# Altium footprint library toaster.PcbLib: 11 footprints
Each footprint in its own frame and in the unit in brackets; x right, y up, seen from the top. Pads: shape width x height; smd on the part's side, far side on the other; paste and mask are expansions set on the pad; w line width, h text height; cw(c..) or ccw(c..) is an arc to the next point about the centre after c.
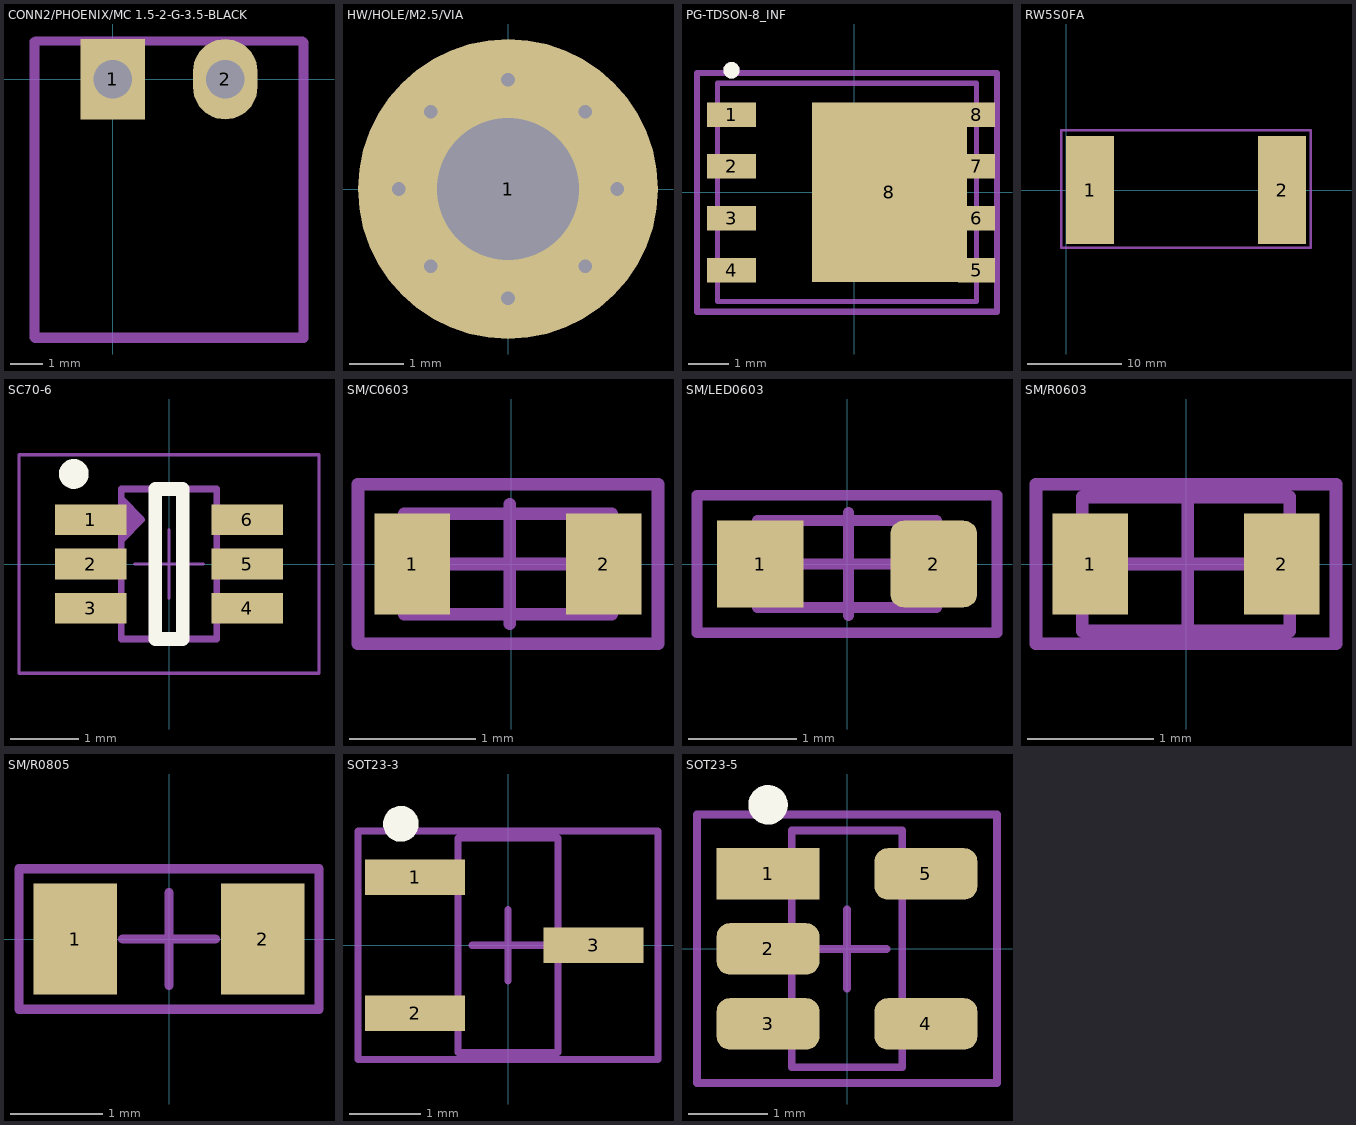
[diagram p0: the footprints below, top view; thin cyan lines are the x and y axes]

## CONN2/PHOENIX/MC 1.5-2-G-3.5-BLACK [mm]
pads (2):
  rect 2x2.5 hole 1.2: 1(0,0)
  oval 2x2.5 hole 1.2: 2(3.5,0)
Top Assembly:
  lines w0.254: -2.464,-8.026 -2.413,-8.077 ; 5.944,-8.077 5.969,-8.052 ; 5.944,1.168 5.969,1.143
Top 3D Body:
  lines w0.254: -2.4,-8 5.9,-8 5.9,1.2 -2.4,1.2 -2.4,-8
Top Courtyard:
  lines w0.254: -2.464,-8.026 -2.464,1.168 ; -2.413,-8.077 5.944,-8.077 ; -2.413,1.168 5.944,1.168 ; 5.969,-8.052 5.969,1.143
Top Designator:
  text ".Designator" at -1.746,-3.66 h0.7
3D body "pxc_1844210_05_MC-1-5-2-G-3-5_3Dblack.STEP": height 7.25, standoff -3.4, extent -2.439,-8 5.961,1.2

## HW/HOLE/M2.5/VIA [mm]
pads (1):
  round 5.5 hole 2.6: 1(0,0)
via 0,2 diameter 0.6 hole 0.25
via 2,0 diameter 0.6 hole 0.25
via 0,-2 diameter 0.6 hole 0.25
via -2,0 diameter 0.6 hole 0.25
via -1.414,1.414 diameter 0.6 hole 0.25
via 1.414,1.414 diameter 0.6 hole 0.25
via 1.414,-1.414 diameter 0.6 hole 0.25
via -1.414,-1.414 diameter 0.6 hole 0.25
Top Designator:
  text ".Designator" at -7.618,-0.508 h1.52

## PG-TDSON-8_INF [mm]
pads (9):
  rect 1.2x0.6 smd: 1(-3,1.905) 2(-3,0.635) 3(-3,-0.635) 4(-3,-1.905)
  rect 0.9x0.6 smd: 5(3,-1.905) 6(3,-0.635) 7(3,0.635) 8(3,1.905)
  rect 3.8x4.4 smd paste-3: 8(0.864,0)
Top Overlay:
  circle w0.2: c-3.005,2.992 r0.1
Top Paste:
  region: 2.2,0.6 1.018,0.6 1.018,1.795 2.2,1.795
  region: 0.6,0.6 -0.582,0.6 -0.582,1.795 0.6,1.795
  region: 0.6,-1.8 -0.582,-1.8 -0.582,-0.605 0.6,-0.605
  region: 2.2,-1.8 1.018,-1.8 1.018,-0.605 2.2,-0.605
Top 3D Body:
  circle w0.2: c-3.005,2.992 r0.1
  lines w0.127: -3.35,-2.675 3,-2.675 3,2.675 -3.35,2.675 -3.35,-2.675
Top Courtyard:
  lines w0.15: -3.85,-2.925 3.5,-2.925 3.5,2.925 -3.85,2.925 -3.85,-2.925
3D body "User Library-son_1p27-6x5x1p10-5_8n.STEP": height 1.1, standoff 0, extent -3.124,-2.575 3.026,2.575

## RW5S0FA [mm]
pads (2):
  rect 5.08x11.43 smd: 1(2.54,0) 2(22.86,0)
Top Courtyard:
  lines w0.254: -0.508,-6.096 -0.508,6.35 25.908,6.35 25.908,-6.096 -0.508,-6.096
3D body "RW5S0FA10K0JE--3DModel-STEP-56544.STEP": height 10.31, standoff 0, extent 2.464,-4.572 22.936,4.699

## SC70-6 [mm] "SOT363, 6-Leads, Body 2x1.3mm, Pitch 0.65mm, Lead Span 2.1mm, IPC Low Density"
height 1.1
pads (6):
  rect 1.05x0.45 smd: 1(-1.15,0.65) 2(-1.15,0) 3(-1.15,-0.65) 4(1.15,-0.65) 5(1.15,0) 6(1.15,0.65)
Top Overlay:
  circle w0.254: c-1.397,1.321 r0.092
  lines w0.2: -0.2,-1.1 -0.2,1.1 0.2,1.1 0.2,-1.1 -0.2,-1.1
Top 3D Body:
  lines w0.1: -0.7,0.35 -0.4,0.65 -0.7,0.95 ; -0.7,0.45 -0.5,0.65 -0.7,0.85 ; -0.7,0.55 -0.6,0.65 -0.7,0.75 ; -0.7,-1.1 0.7,-1.1 0.7,1.1 -0.7,1.1 -0.7,-1.1
Top Courtyard:
  lines w0.05: -0.5,0 0,0 ; 0,-0.5 0,0 ; 0,0.5 0,0 ; 0.5,0 0,0 ; -2.2,-1.6 2.2,-1.6 2.2,1.6 -2.2,1.6 -2.2,-1.6
Top Designator:
  text ".Designator" at -7.618,-0.508 h1.52
3D body "SC-70-6.STEP": height 1.1, standoff -0.01, extent -1.15,-1.132 1.1,1.118

## SM/C0603 [mm] "Chip Capacitor, Body 1.6x0.8mm, IPC Low Density"
height 0.6
pads (2):
  rect 0.6x0.8 smd: 1(-0.787,0) 2(0.737,0)
Top 3D Body:
  lines w0.1: -0.851,-0.4 0.8,-0.4 0.8,0.4 -0.851,0.4 -0.851,-0.4
Top Courtyard:
  lines w0.1: -0.488,0 0.462,0 ; -0.013,-0.475 -0.013,0.475 ; -1.219,-0.635 1.168,-0.635 1.168,0.635 -1.219,0.635 -1.219,-0.635
Top Designator:
  text ".Designator" at -2.525,-0.167 h0.5
3D body "SM-C603.STEP": height 0.6, standoff 0, extent -0.825,-0.4 0.775,0.4

## SM/LED0603 [mm] "Chip Capacitor, Body 1.6x0.8mm, IPC Low Density"
height 0.6
pads (2):
  rect 0.8x0.8 smd: 1(-0.8,0)
  rrect30% 0.8x0.8 smd: 2(0.8,0)
Top 3D Body:
  lines w0.1: -0.826,-0.4 -0.826,0.4 0.826,0.4 0.826,-0.4 -0.826,-0.4
Top Courtyard:
  lines w0.1: -0.462,0 0.488,0 ; 0.013,-0.475 0.013,0.475 ; -1.384,-0.635 -1.384,0.635 1.384,0.635 1.384,-0.635 -1.384,-0.635
Top Designator:
  text ".Designator" at -3.199,1.167 h0.7
3D body "XZxx53-1.STEP": height 0.73, standoff -0.02, extent -0.776,-0.401 0.835,0.401

## SM/R0603 [mm] "Chip Resistor, Body 1.6x0.8mm, IPC Low Density"
height 0.6
pads (2):
  rect 0.6x0.8 smd: 1(-0.762,0) 2(0.762,0)
Top 3D Body:
  lines w0.1: -0.826,-0.533 -0.826,0.533 0.826,0.533 0.826,-0.533 -0.826,-0.533
Top Courtyard:
  lines w0.1: -0.462,0 0.488,0 ; 0.013,-0.475 0.013,0.475 ; -1.194,-0.635 1.194,-0.635 1.194,0.635 -1.194,0.635 -1.194,-0.635
Top Designator:
  text ".Designator" at -2.499,-0.167 h0.5
3D body "RES0603-1.STEP": height 0.4, standoff 0, extent -0.8,-0.4 0.8,0.4

## SM/R0805 [mm] "Chip Resistor, Body 2.0x1.3mm, IPC Low Density"
height 0.65
pads (2):
  rect 0.9x1.2 smd: 1(-1.016,0) 2(1.016,0)
Top Courtyard:
  lines w0.1: -0.5,0 0.5,0 ; 0,-0.5 0,0.5 ; -1.626,-0.762 1.626,-0.762 1.626,0.762 -1.626,0.762 -1.626,-0.762
Top Designator:
  text ".Designator" at -7.618,-0.508 h1.52
3D body "RES_0805L.STEP": height 0.21, standoff -0.2, extent -1,-0.625 1,0.625

## SOT23-3 [mm] "SOT23, 3-Leads, Body 3.0x2.6mm (max), Pitch 0.95mm, IPC Low Density"
height 1.1
pads (3):
  rect 1.4x0.5 smd: 1(-1.3,0.95) 2(-1.3,-0.95) 3(1.2,0)
Top Overlay:
  circle w0.25: c-1.5,1.7 r0.125
Top 3D Body:
  lines w0.1: -0.7,-1.5 -0.7,1.5 0.7,1.5 0.7,-1.5 -0.7,-1.5
Top Courtyard:
  lines w0.1: -0.5,0 0.5,0 ; 0,-0.5 0,0.5 ; -2.1,-1.6 2.1,-1.6 2.1,1.6 -2.1,1.6 -2.1,-1.6
Top Designator:
  text ".Designator" at -3.499,-0.233 h0.7
3D body "SOT23-3.STEP": height 1.46, standoff 0, extent -1.575,-1.501 1.422,1.499

## SOT23-5 [mm] "SOT23, 5-Leads, Body 3.0x2.6mm (max), Pitch 0.95mm, IPC Low Density"
height 1.1
pads (5):
  rect 1.3x0.65 smd: 1(-1,0.95)
  rrect50% 1.3x0.65 smd: 2(-1,0) 3(-1,-0.95) 4(1,-0.95) 5(1,0.95)
Top Overlay:
  circle w0.25: c-1,1.825 r0.125
Top 3D Body:
  lines w0.1: -0.7,-1.5 0.7,-1.5 0.7,1.5 -0.7,1.5 -0.7,-1.5
Top Courtyard:
  lines w0.1: -0.5,0 0.5,0 ; 0,-0.5 0,0.5 ; -1.9,-1.7 -1.9,1.7 1.9,1.7 1.9,-1.7 -1.9,-1.7
Top Designator:
  text ".Designator" at -3.499,-0.221 h0.7
3D body "SOT-23-5.STEP": height 1.45, standoff -0.01, extent -1.524,-1.5 1.476,1.5